# Altium schematic symbol library ADG1436YCPZ.SchLib: 1 symbol
Pins are listed as number, name and electrical type; pins without a type are passive.

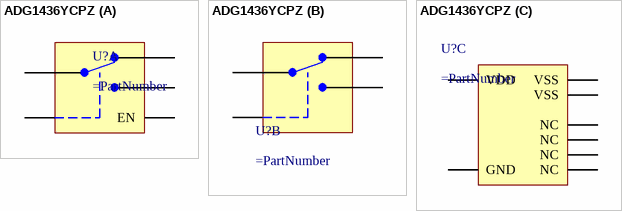
[diagram p0: symbol ADG1436YCPZ]

## ADG1436YCPZ
designator U?
part A pins: 1 D1, 2 S1B, 12 EN, 15 IN1, 16 S1A
part B pins: 6 IN2, 8 S2A, 9 D2, 10 S2B
part C pins: 3 VSS, 4 GND, 5 NC, 7 NC, 11 VDD, 13 NC, 14 NC, 17 VSS